# EAGLE library part FDS6690A (library FDS6690A)
FDS6690A, N-channel MOSFET Transistor 11 A 30 V, 8-Pin SOIC Source: Datasheet <https://datasheet.datasheetarchive.com/originals/distributors/Datasheets_SAMA/7499f5650a82e511eeed916ae198c5af.pdf>
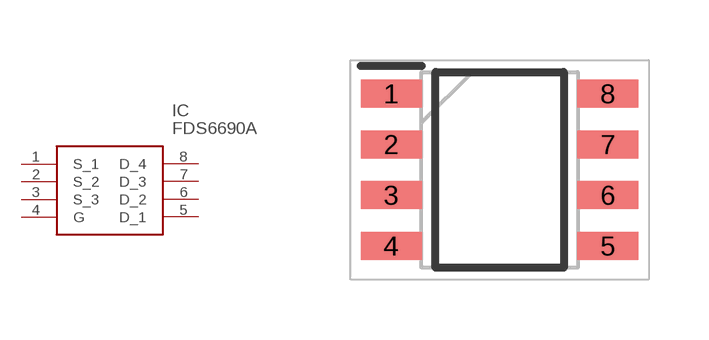
[diagram p0: symbol with the pads of SOIC127P600X175-8N; footprint SOIC127P600X175-8N]

Designator prefix IC

## FDS6690A (Description: FDS6690A, N-channel MOSFET Transistor 11 A 30 V, 8-Pin SOIC; Height: 1.75mm; Manufacturer_Name: onsemi; Manufacturer_Part_Number: FDS6690A; Mouser_Part_Number: 512-FDS6690A; Mouser_Price-Stock: https://www.mouser.co.uk/ProductDetail/onsemi-Fairchild/FDS6690A?qs=HK%252BeIG1iaajCQ7GvPyNvug%3D%3D)  [SOIC127P600X175-8N]
1  S_1
2  S_2
3  S_3
4  G
5  D_1
6  D_2
7  D_3
8  D_4

## Footprint SOIC127P600X175-8N (pad centres in mm)
SOIC 8
smd 1.525 x 0.7: 1 -2.712,1.905; 2 -2.712,0.635; 3 -2.712,-0.635; 4 -2.712,-1.905; 5 2.712,-1.905; 6 2.712,-0.635; 7 2.712,0.635; 8 2.712,1.905